# Altium schematic symbol library DcDc.SchLib: 1 symbol
Pins are listed as number, name and electrical type; pins without a type are passive.

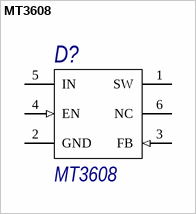
[diagram p0: symbol MT3608]

## MT3608
designator D?
DC/DC step-up converter; Name: *; Value: *; Body: *
footprint SOT95P245X145-6N (SOT23, 5-Leads, Body 2,90x2,45mm, Pitch 0,95mm, IPC Medium Density)
pins: 1 SW, 2 GND (power), 3 FB (in), 4 EN (in), 5 IN (power), 6 NC